# Altium schematic symbol library FPGA.SchLib: 3 symbols
Pins are listed as number, name and electrical type; pins without a type are passive.

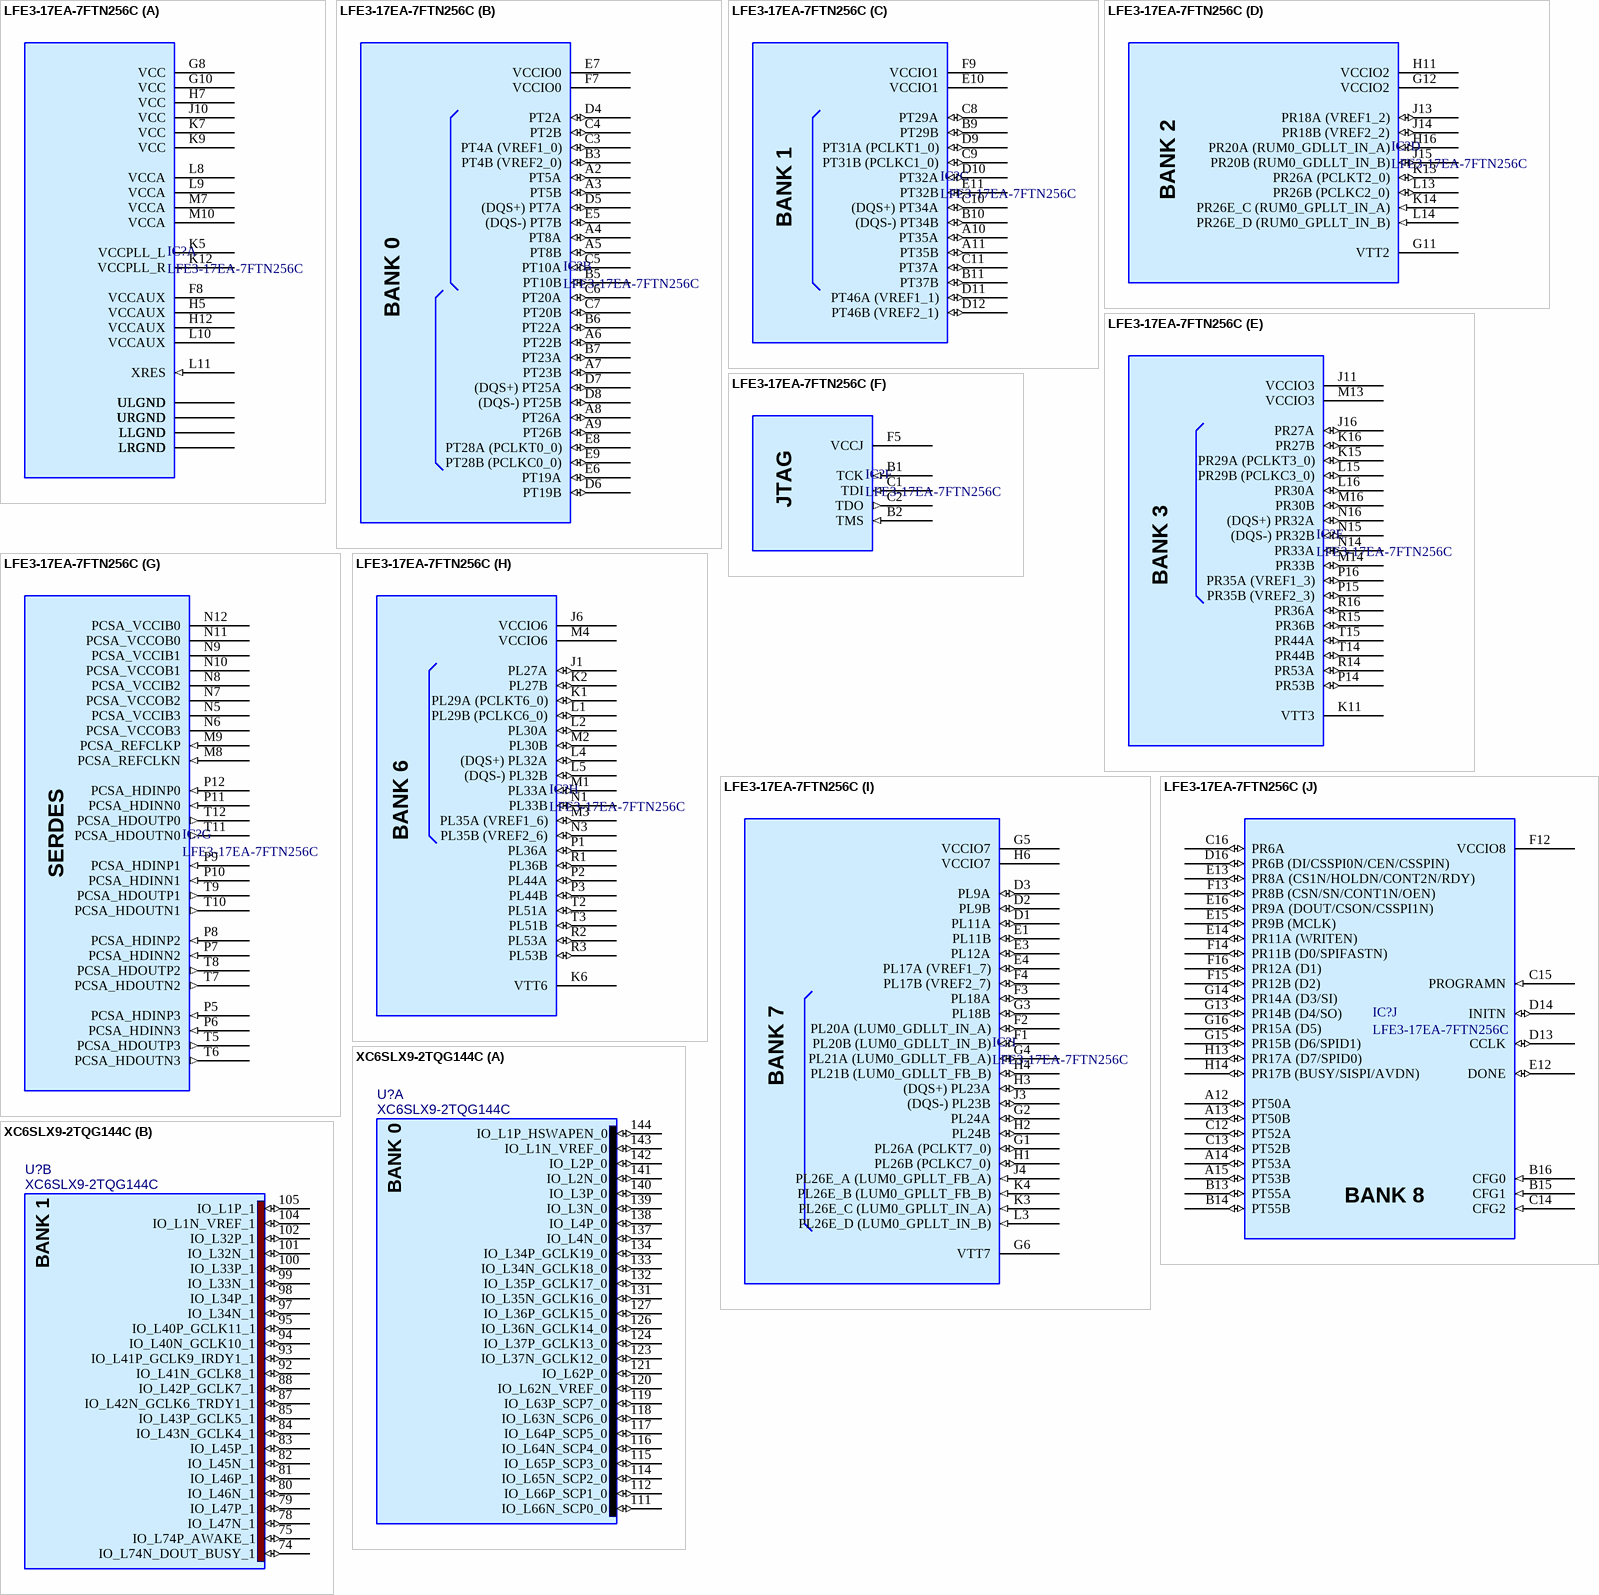
[diagram p0: symbols LFE3-17EA-7FTN256C to XC6SLX9-2TQG144C]

## LFE3-17EA-7FTN256C
designator IC?
Lattice ECP3-17; IOs: 133; LUTs: 17K; SERDES: 4; Speed Grade: -8; Voltage: 1.2V; ComponentLink1Description: Datasheet; ComponentLink1URL: http://www.latticesemi.com/documents/ds1021ea.pdf; Created: 2013-10-02; Last Updated: 2013-10-02; Manufacturer 1: Lattice; Manufacturer Part Number 1: LFE3-17EA-7FTN256C; Package: ftBGA256
footprint FTBGA-256 (ECP3 Variant)
part A pins: A1 URGND (power), A16 ULGND (power), B4 URGND (power), B8 URGND (power), B12 ULGND (power), D15 ULGND (power), E2 URGND (power), F6 URGND (power), F8 VCCAUX (power), F10 ULGND (power), F11 ULGND (power), G7 URGND (power), G8 VCC (power), G9 ULGND (power), G10 VCC (power), H5 VCCAUX (power), H7 VCC (power), H8 URGND (power), H9 ULGND (power), H10 ULGND (power), H12 VCCAUX (power), H15 ULGND (power), J2 LRGND (power), J5 LRGND (power), J7 LRGND (power), J8 LRGND (power), J9 LLGND (power), J10 VCC (power), J12 LLGND (power), K5 VCCPLL_L (power), K7 VCC (power), K8 LRGND (power), K9 VCC (power), K10 LLGND (power), K12 VCCPLL_R (power), L6 LRGND (power), L7 LRGND (power), L8 VCCA (power), L9 VCCA (power), L10 VCCAUX (power), L11 XRES (in), L12 LLGND (power), M5 LRGND (power), M6 LRGND (power), M7 VCCA (power), M10 VCCA (power), M11 LLGND (power), M12 LLGND (power), M15 LLGND (power), N2 LRGND (power), N4 LRGND (power), N13 LLGND (power), P4 LRGND (power), P13 LLGND (power), R4 LRGND (power), R5 LRGND (power), R6 LRGND (power), R7 LRGND (power), R8 LRGND (power), R9 LLGND (power), R10 LLGND (power), R11 LLGND (power), R12 LLGND (power), R13 LLGND (power), T1 LRGND (power), T4 LRGND (power), T13 LLGND (power), T16 LLGND (power)
part B pins: A2 PT5A (io) "0", A3 PT5B (io) "0", A4 PT8A (io) "0", A5 PT8B (io) "0", A6 PT22B (io) "0", A7 PT23B (io) "0", A8 PT26A (io) "0", A9 PT26B (io) "0", B3 PT4B (VREF2_0) (io) "0", B5 PT10B (io) "0", B6 PT22A (io) "0", B7 PT23A (io) "0", C3 PT4A (VREF1_0) (io) "0", C4 PT2B (io) "0", C5 PT10A (io) "0", C6 PT20A (io) "0", C7 PT20B (io) "0", D4 PT2A (io) "0", D5 (DQS+) PT7A (io) "0", D6 PT19B (io) "0", D7 (DQS+) PT25A (io) "0", D8 (DQS-) PT25B (io) "0", E5 (DQS-) PT7B (io) "0", E6 PT19A (io) "0", E7 VCCIO0 "0", E8 PT28A (PCLKT0_0) (io) "0", E9 PT28B (PCLKC0_0) (io) "0", F7 VCCIO0 "0"
part C pins: A10 PT35A (io) "1", A11 PT35B (io) "1", B9 PT29B (io) "1", B10 (DQS-) PT34B (io) "1", B11 PT37B (io) "1", C8 PT29A (io) "1", C9 PT31B (PCLKC1_0) (io) "1", C10 (DQS+) PT34A (io) "1", C11 PT37A (io) "1", D9 PT31A (PCLKT1_0) (io) "1", D10 PT32A (io) "1", D11 PT46A (VREF1_1) (io) "1", D12 PT46B (VREF2_1) (io) "1", E10 VCCIO1 (power) "1", E11 PT32B (io) "1", F9 VCCIO1 (power) "1"
part D pins: G11 VTT2, G12 VCCIO2 (power) "2", H11 VCCIO2 "2", H16 PR20A (RUM0_GDLLT_IN_A) (io) "2", J13 PR18A (VREF1_2) (io) "2", J14 PR18B (VREF2_2) (io) "2", J15 PR20B (RUM0_GDLLT_IN_B) (io) "2", K13 PR26A (PCLKT2_0) (io) "2", K14 PR26E_C (RUM0_GPLLT_IN_A) (in) "2", L13 PR26B (PCLKC2_0) (io) "2", L14 PR26E_D (RUM0_GPLLT_IN_B) (in) "2"
part E pins: J11 VCCIO3 "3", J16 PR27A (io) "3", K11 VTT3, K15 PR29A (PCLKT3_0) (io) "3", K16 PR27B (io) "3", L15 PR29B (PCLKC3_0) (io) "3", L16 PR30A (io) "3", M13 VCCIO3 (power) "3", M14 PR33B (io) "3", M16 PR30B (io) "3", N14 PR33A (io) "3", N15 (DQS-) PR32B (io) "3", N16 (DQS+) PR32A (io) "3", P14 PR53B (io) "3", P15 PR35B (VREF2_3) (io) "3", P16 PR35A (VREF1_3) (io) "3", R14 PR53A (io) "3", R15 PR36B (io) "3", R16 PR36A (io) "3", T14 PR44B (io) "3", T15 PR44A (io) "3"
part F pins: B1 TCK (in) "4", B2 TMS (in) "4", C1 TDI (in), C2 TDO (out) "4", F5 VCCJ (power) "4"
part G pins: M8 PCSA_REFCLKN (in), M9 PCSA_REFCLKP (in), N5 PCSA_VCCIB3 (power), N6 PCSA_VCCOB3 (power), N7 PCSA_VCCOB2 (power), N8 PCSA_VCCIB2 (power), N9 PCSA_VCCIB1 (power), N10 PCSA_VCCOB1 (power), N11 PCSA_VCCOB0 (power), N12 PCSA_VCCIB0 (power), P5 PCSA_HDINP3 (in), P6 PCSA_HDINN3 (in), P7 PCSA_HDINN2 (in), P8 PCSA_HDINP2 (in), P9 PCSA_HDINP1 (in), P10 PCSA_HDINN1 (in), P11 PCSA_HDINN0 (in), P12 PCSA_HDINP0 (in), T5 PCSA_HDOUTP3 (out), T6 PCSA_HDOUTN3 (out), T7 PCSA_HDOUTN2 (out), T8 PCSA_HDOUTP2 (out), T9 PCSA_HDOUTP1 (out), T10 PCSA_HDOUTN1 (out), T11 PCSA_HDOUTN0 (out), T12 PCSA_HDOUTP0 (out)
part H pins: J1 PL27A (io) "6", J6 VCCIO6 (power) "6", K1 PL29A (PCLKT6_0) (io) "6", K2 PL27B (io) "6", K6 VTT6, L1 PL29B (PCLKC6_0) (io) "6", L2 PL30A (io) "6", L4 (DQS+) PL32A (io) "6", L5 (DQS-) PL32B (io) "6", M1 PL33A (io) "6", M2 PL30B (io) "6", M3 PL35A (VREF1_6) (io) "6", M4 VCCIO6 (power) "6", N1 PL33B (io) "6", N3 PL35B (VREF2_6) (io) "6", P1 PL36A (io) "6", P2 PL44A (io) "6", P3 PL44B (io) "6", R1 PL36B (io) "6", R2 PL53A (io) "6", R3 PL53B (io) "6", T2 PL51A (io) "6", T3 PL51B (io) "6"
part I pins: D1 PL11A (io) "7", D2 PL9B (io) "7", D3 PL9A (io) "7", E1 PL11B (io) "7", E3 PL12A (io) "7", E4 PL17A (VREF1_7) (io) "7", F1 PL20B (LUM0_GDLLT_IN_B) (io) "7", F2 PL20A (LUM0_GDLLT_IN_A) (io) "7", F3 PL18A (io) "7", F4 PL17B (VREF2_7) (io) "7", G1 PL26A (PCLKT7_0) (io) "7", G2 PL24A (io) "7", G3 PL18B (io) "7", G4 PL21A (LUM0_GDLLT_FB_A) (io) "7", G5 VCCIO7 (power) "7", G6 VTT7, H1 PL26B (PCLKC7_0) (io) "7", H2 PL24B (io) "7", H3 (DQS+) PL23A (io) "7", H4 PL21B (LUM0_GDLLT_FB_B) (io) "7", H6 VCCIO7 "7", J3 (DQS-) PL23B (io) "7", J4 PL26E_A (LUM0_GPLLT_FB_A) (in) "7", K3 PL26E_C (LUM0_GPLLT_IN_A) (in) "7", K4 PL26E_B (LUM0_GPLLT_FB_B) (in) "7", L3 PL26E_D (LUM0_GPLLT_IN_B) (in) "7"
part J pins: A12 PT50A (io) "8", A13 PT50B (io) "8", A14 PT53A (io) "8", A15 PT53B (io) "8", B13 PT55A (io) "8", B14 PT55B (io) "8", B15 CFG1 (in) "8", B16 CFG0 (in) "8", C12 PT52A (io) "8", C13 PT52B (io) "8", C14 CFG2 (in) "8", C15 PROGRAMN (in) "8", C16 PR6A (io) "8", D13 CCLK (io) "8", D14 INITN (io) "8", D16 PR6B (DI/CSSPI0N/CEN/CSSPIN) (io) "8", E12 DONE (io) "8", E13 PR8A (CS1N/HOLDN/CONT2N/RDY) (io) "8", E14 PR11A (WRITEN) (io) "8", E15 PR9B (MCLK) (io) "8", E16 PR9A (DOUT/CSON/CSSPI1N) (io) "8", F12 VCCIO8 (power) "8", F13 PR8B (CSN/SN/CONT1N/OEN) (io) "8", F14 PR11B (D0/SPIFASTN) (io) "8", F15 PR12B (D2) (io) "8", F16 PR12A (D1) (io) "8", G13 PR14B (D4/SO) (io) "8", G14 PR14A (D3/SI) (io) "8", G15 PR15B (D6/SPID1) (io) "8", G16 PR15A (D5) (io) "8", H13 PR17A (D7/SPID0) (io) "8", H14 PR17B (BUSY/SISPI/AVDN) (io) "8"
part B text: BANK 0
part C text: BANK 1
part D text: BANK 2
part E text: BANK 3
part F text: JTAG
part G text: SERDES
part H text: BANK 6
part I text: BANK 7
part J text: BANK 8

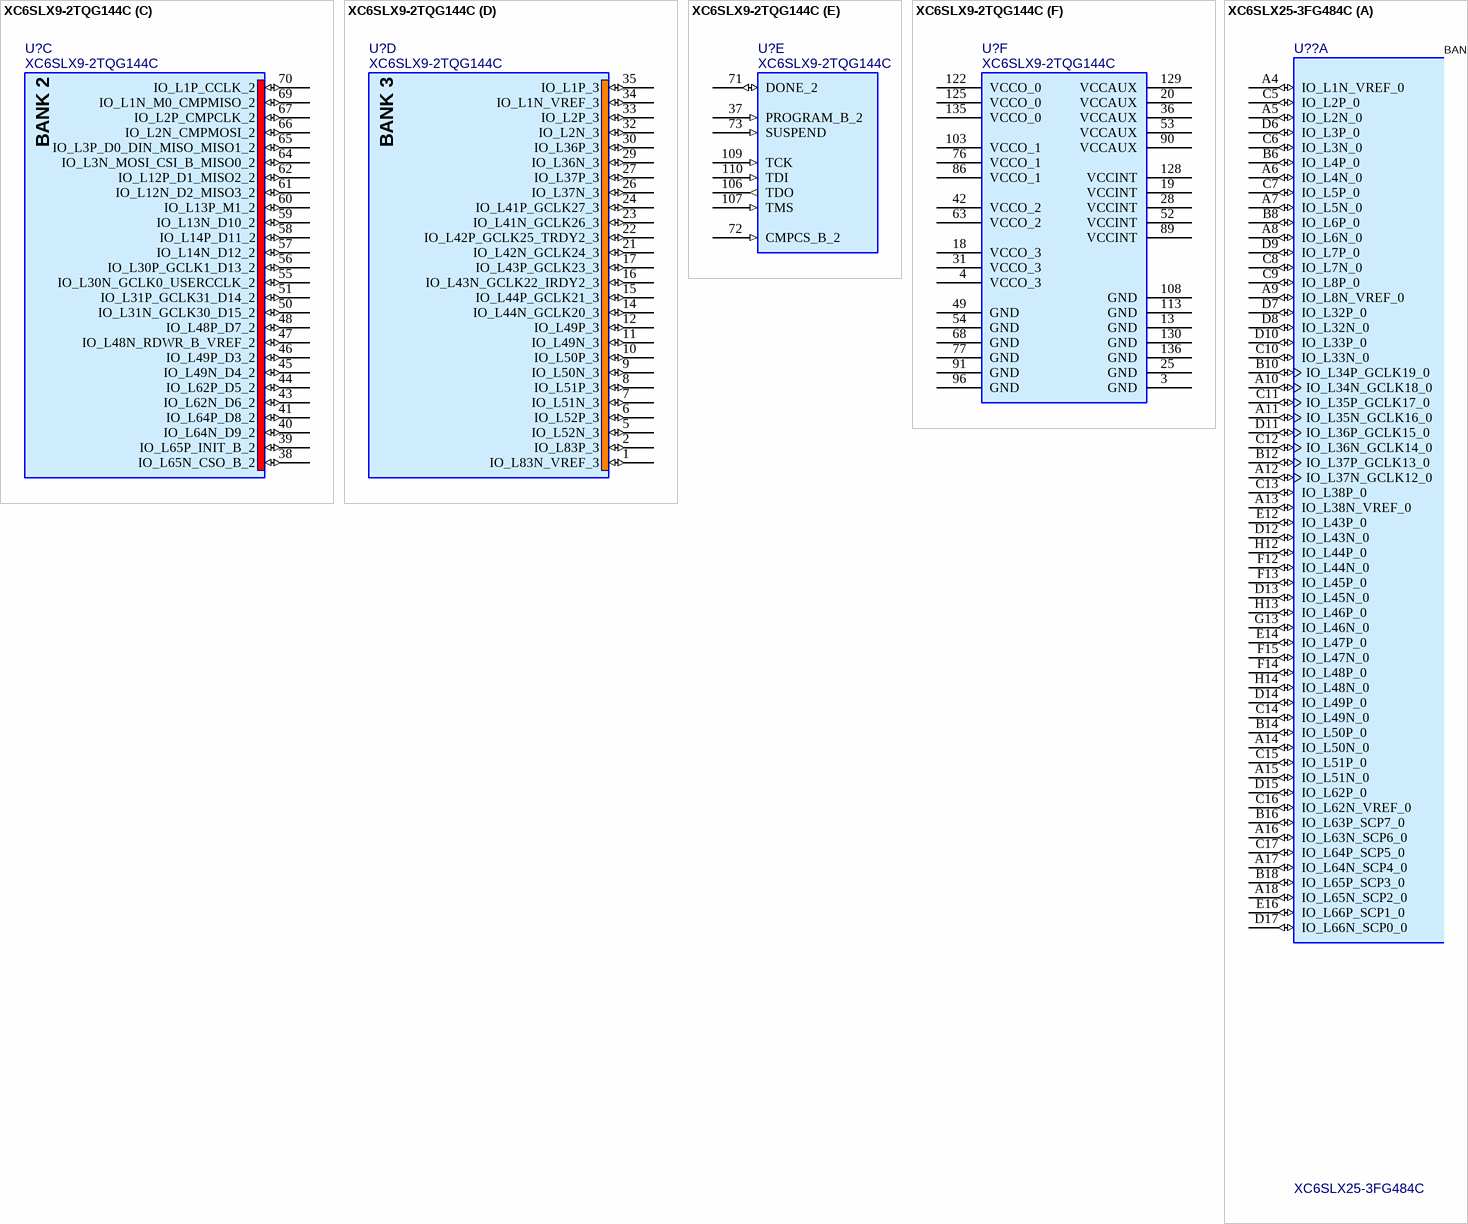
[diagram p1: symbols XC6SLX9-2TQG144C to XC6SLX25-3FG484C]

## XC6SLX9-2TQG144C
designator U?
Spartan-6 LX 1.2V FPGA, 102 User I/Os, 144-Pin TQFP (0.5mm Pitch), Speed Grade 2, Commercial Grade, Pb-Free; Manufacturer 1: Xilinx; PackageReference: TQG144; PackageDescription: 144-Pin Thin Quad Flat Pack (TQG144) - Pb-Free; Code_JEDEC: MS-026-BFB; ComponentLink1Description: Spartan-6 Datasheet; ComponentLink1URL: http://www.xilinx.com/support/documentation/data_sheets/ds160.pdf; ComponentLink2Description: Pinout Specification; ComponentLink2URL: http://www.xilinx.com/support/documentation/user_guides/ug385.pdf; ComponentLink3Description: TQG144 Package Drawing; ComponentLink3URL: http://www.xilinx.com/support/documentation/package_specs/tq144.pdf; ComponentLink4Description: Spartan-6 Documents; ComponentLink4URL: http://www.xilinx.com/support/documentation/spartan-6.htm; ComponentLink5Description: Xilinx.com Home; ComponentLink5URL: http://www.xilinx.com; Created: 2014-05-20; Last Updated: 2014-05-20
footprint TQG144 (Thin QFP, 144-Leads, Body 20x20mm, Pitch 0.5mm, IPC Medium Density)
part A pins: 111 IO_L66N_SCP0_0 (io), 112 IO_L66P_SCP1_0 (io), 114 IO_L65N_SCP2_0 (io), 115 IO_L65P_SCP3_0 (io), 116 IO_L64N_SCP4_0 (io), 117 IO_L64P_SCP5_0 (io), 118 IO_L63N_SCP6_0 (io), 119 IO_L63P_SCP7_0 (io), 120 IO_L62N_VREF_0 (io), 121 IO_L62P_0 (io), 123 IO_L37N_GCLK12_0 (io), 124 IO_L37P_GCLK13_0 (io), 126 IO_L36N_GCLK14_0 (io), 127 IO_L36P_GCLK15_0 (io), 131 IO_L35N_GCLK16_0 (io), 132 IO_L35P_GCLK17_0 (io), 133 IO_L34N_GCLK18_0 (io), 134 IO_L34P_GCLK19_0 (io), 137 IO_L4N_0 (io), 138 IO_L4P_0 (io), 139 IO_L3N_0 (io), 140 IO_L3P_0 (io), 141 IO_L2N_0 (io), 142 IO_L2P_0 (io), 143 IO_L1N_VREF_0 (io), 144 IO_L1P_HSWAPEN_0 (io)
part B pins: 74 IO_L74N_DOUT_BUSY_1 (io), 75 IO_L74P_AWAKE_1 (io), 78 IO_L47N_1 (io), 79 IO_L47P_1 (io), 80 IO_L46N_1 (io), 81 IO_L46P_1 (io), 82 IO_L45N_1 (io), 83 IO_L45P_1 (io), 84 IO_L43N_GCLK4_1 (io), 85 IO_L43P_GCLK5_1 (io), 87 IO_L42N_GCLK6_TRDY1_1 (io), 88 IO_L42P_GCLK7_1 (io), 92 IO_L41N_GCLK8_1 (io), 93 IO_L41P_GCLK9_IRDY1_1 (io), 94 IO_L40N_GCLK10_1 (io), 95 IO_L40P_GCLK11_1 (io), 97 IO_L34N_1 (io), 98 IO_L34P_1 (io), 99 IO_L33N_1 (io), 100 IO_L33P_1 (io), 101 IO_L32N_1 (io), 102 IO_L32P_1 (io), 104 IO_L1N_VREF_1 (io), 105 IO_L1P_1 (io)
part C pins: 38 IO_L65N_CSO_B_2 (io), 39 IO_L65P_INIT_B_2 (io), 40 IO_L64N_D9_2 (io), 41 IO_L64P_D8_2 (io), 43 IO_L62N_D6_2 (io), 44 IO_L62P_D5_2 (io), 45 IO_L49N_D4_2 (io), 46 IO_L49P_D3_2 (io), 47 IO_L48N_RDWR_B_VREF_2 (io), 48 IO_L48P_D7_2 (io), 50 IO_L31N_GCLK30_D15_2 (io), 51 IO_L31P_GCLK31_D14_2 (io), 55 IO_L30N_GCLK0_USERCCLK_2 (io), 56 IO_L30P_GCLK1_D13_2 (io), 57 IO_L14N_D12_2 (io), 58 IO_L14P_D11_2 (io), 59 IO_L13N_D10_2 (io), 60 IO_L13P_M1_2 (io), 61 IO_L12N_D2_MISO3_2 (io), 62 IO_L12P_D1_MISO2_2 (io), 64 IO_L3N_MOSI_CSI_B_MISO0_2 (io), 65 IO_L3P_D0_DIN_MISO_MISO1_2 (io), 66 IO_L2N_CMPMOSI_2 (io), 67 IO_L2P_CMPCLK_2 (io), 69 IO_L1N_M0_CMPMISO_2 (io), 70 IO_L1P_CCLK_2 (io)
part D pins: 1 IO_L83N_VREF_3 (io), 2 IO_L83P_3 (io), 5 IO_L52N_3 (io), 6 IO_L52P_3 (io), 7 IO_L51N_3 (io), 8 IO_L51P_3 (io), 9 IO_L50N_3 (io), 10 IO_L50P_3 (io), 11 IO_L49N_3 (io), 12 IO_L49P_3 (io), 14 IO_L44N_GCLK20_3 (io), 15 IO_L44P_GCLK21_3 (io), 16 IO_L43N_GCLK22_IRDY2_3 (io), 17 IO_L43P_GCLK23_3 (io), 21 IO_L42N_GCLK24_3 (io), 22 IO_L42P_GCLK25_TRDY2_3 (io), 23 IO_L41N_GCLK26_3 (io), 24 IO_L41P_GCLK27_3 (io), 26 IO_L37N_3 (io), 27 IO_L37P_3 (io), 29 IO_L36N_3 (io), 30 IO_L36P_3 (io), 32 IO_L2N_3 (io), 33 IO_L2P_3 (io), 34 IO_L1N_VREF_3 (io), 35 IO_L1P_3 (io)
part E pins: 37 PROGRAM_B_2 (in), 71 DONE_2 (io), 72 CMPCS_B_2 (in), 73 SUSPEND (in), 106 TDO (out), 107 TMS (in), 109 TCK (in), 110 TDI (in)
part F pins: 3 GND (power), 4 VCCO_3 (power), 13 GND (power), 18 VCCO_3 (power), 19 VCCINT (power), 20 VCCAUX (power), 25 GND (power), 28 VCCINT (power), 31 VCCO_3 (power), 36 VCCAUX (power), 42 VCCO_2 (power), 49 GND (power), 52 VCCINT (power), 53 VCCAUX (power), 54 GND (power), 63 VCCO_2 (power), 68 GND (power), 76 VCCO_1 (power), 77 GND (power), 86 VCCO_1 (power), 89 VCCINT (power), 90 VCCAUX (power), 91 GND (power), 96 GND (power), 103 VCCO_1 (power), 108 GND (power), 113 GND (power), 122 VCCO_0 (power), 125 VCCO_0 (power), 128 VCCINT (power), 129 VCCAUX (power), 130 GND (power), 135 VCCO_0 (power), 136 GND (power)
part A text: BANK 0
part B text: BANK 1
part C text: BANK 2
part D text: BANK 3

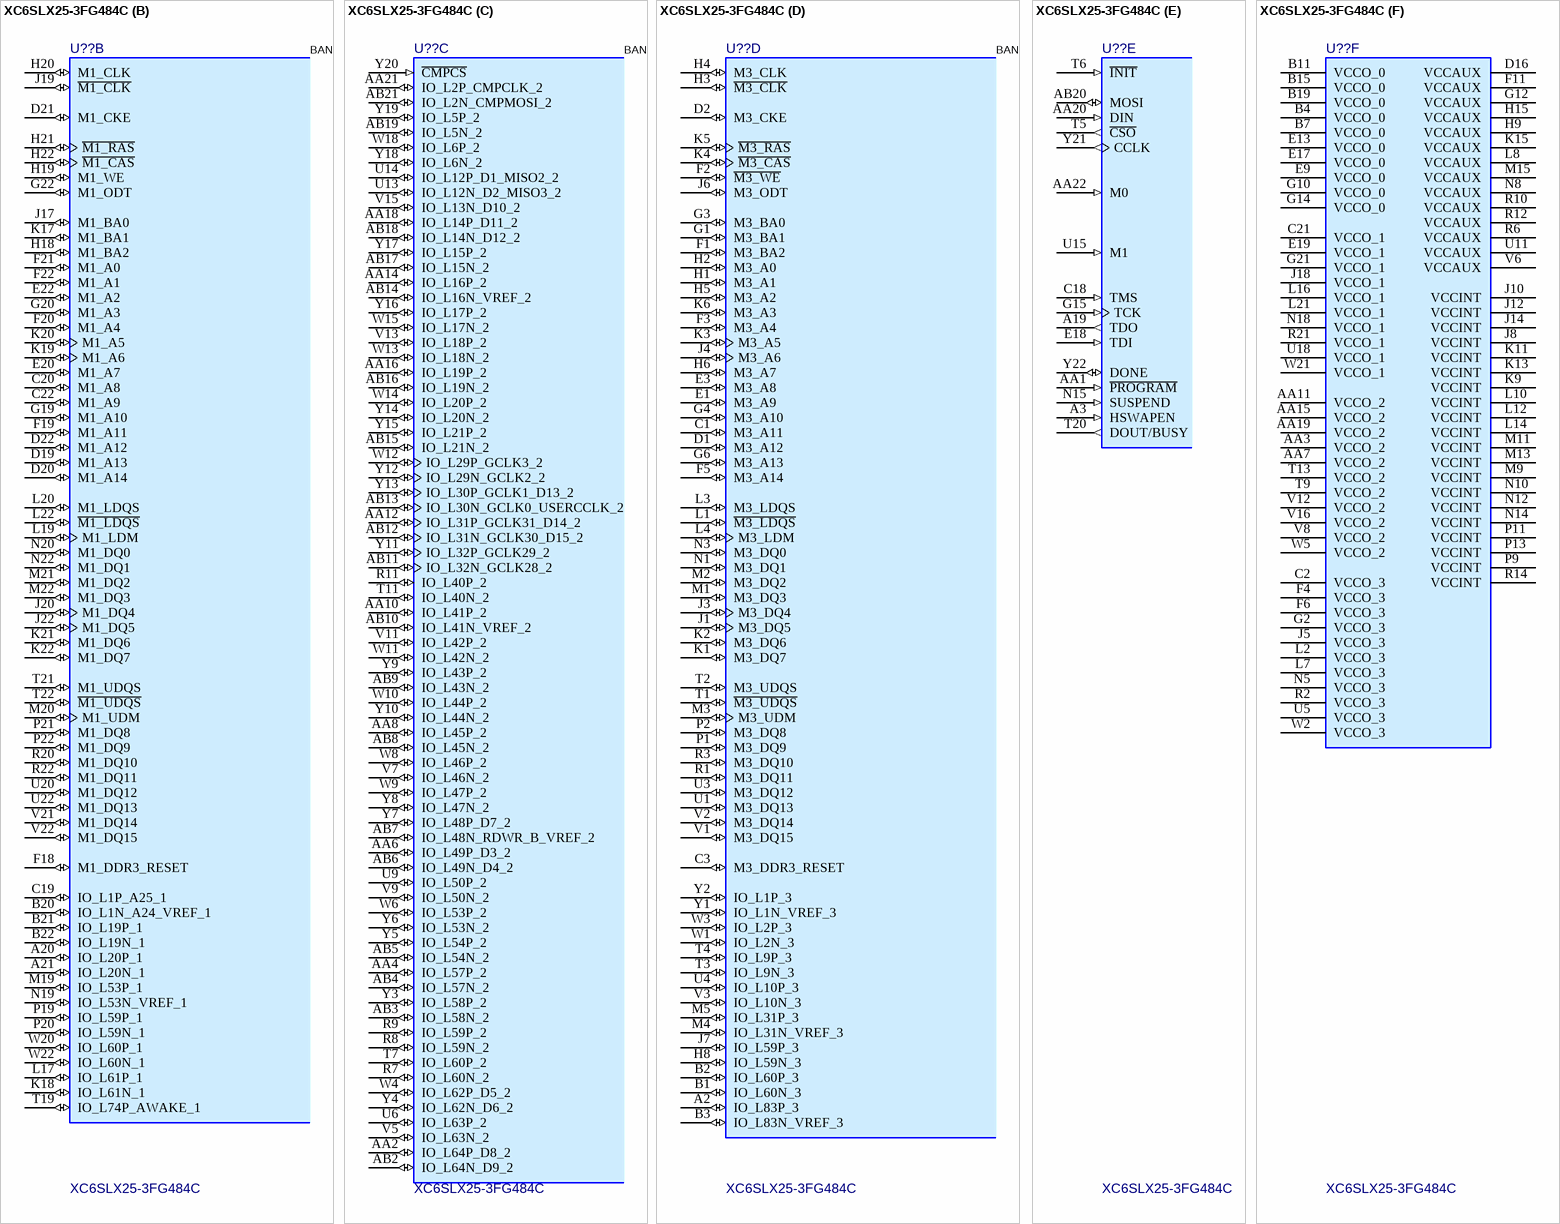
[diagram p2: symbol XC6SLX25-3FG484C]

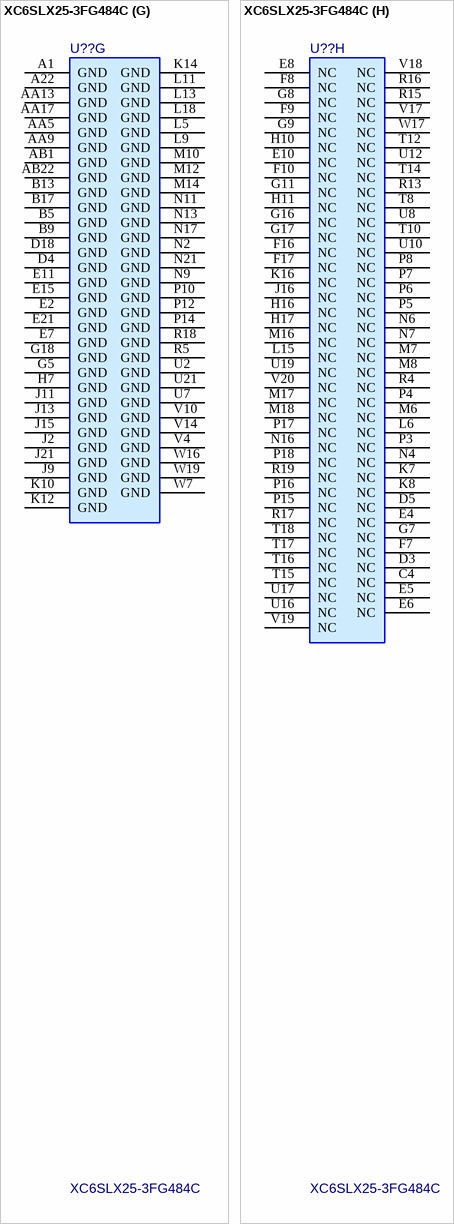
[diagram p3: symbol XC6SLX25-3FG484C]

## XC6SLX25-3FG484C
designator U??
Spartan-6 LX 1.2V FPGA, 266 User I/Os, 484-Ball Fine-Pitch BGA (1.0mm Pitch), Speed Grade 3, Commercial Grade; Published: 17-Nov-2009; DatasheetVersion: ver1.6, Nov-2010; PackageVersion: ver1.1, Dec-2008; PackageReference: FG484; Publisher: Altium Limited; PackageDescription: 484-Ball Fine Pitch Ball Grid Array 1.00 mm Pitch (FG484); Code_JEDEC: MS-034-AAJ-1; Code_IPC: BGA100P22X22-484; ComponentLink1Description: Manufacturer Link; ComponentLink1URL: http://www.xilinx.com; ComponentLink2Description: Spartan-6 Datasheet; ComponentLink2URL: http://www.xilinx.com/support/documentation/data_sheets/ds160.pdf; ComponentLink3Description: Spartan-6 Documents; ComponentLink3URL: http://www.xilinx.com/support/documentation/spartan-6.htm; ComponentLink4Description: Xilinx.com Home; ComponentLink4URL: http://www.xilinx.com
footprint FGG484 (484-Ball Fine Pitch Ball Grid Array 1.00 mm Pitch (FGG484) - Pb-Free)
signal-integrity model XC6SLX25_FG484 (Spartan-6)
part A pins: A4 IO_L1N_VREF_0 (io), A5 IO_L2N_0 (io), A6 IO_L4N_0 (io), A7 IO_L5N_0 (io), A8 IO_L6N_0 (io), A9 IO_L8N_VREF_0 (io), A10 IO_L34N_GCLK18_0 (io), A11 IO_L35N_GCLK16_0 (io), A12 IO_L37N_GCLK12_0 (io), A13 IO_L38N_VREF_0 (io), A14 IO_L50N_0 (io), A15 IO_L51N_0 (io), A16 IO_L63N_SCP6_0 (io), A17 IO_L64N_SCP4_0 (io), A18 IO_L65N_SCP2_0 (io), B6 IO_L4P_0 (io), B8 IO_L6P_0 (io), B10 IO_L34P_GCLK19_0 (io), B12 IO_L37P_GCLK13_0 (io), B14 IO_L50P_0 (io), B16 IO_L63P_SCP7_0 (io), B18 IO_L65P_SCP3_0 (io), C5 IO_L2P_0 (io), C6 IO_L3N_0 (io), C7 IO_L5P_0 (io), C8 IO_L7N_0 (io), C9 IO_L8P_0 (io), C10 IO_L33N_0 (io), C11 IO_L35P_GCLK17_0 (io), C12 IO_L36N_GCLK14_0 (io), C13 IO_L38P_0 (io), C14 IO_L49N_0 (io), C15 IO_L51P_0 (io), C16 IO_L62N_VREF_0 (io), C17 IO_L64P_SCP5_0 (io), D6 IO_L3P_0 (io), D7 IO_L32P_0 (io), D8 IO_L32N_0 (io), D9 IO_L7P_0 (io), D10 IO_L33P_0 (io), D11 IO_L36P_GCLK15_0 (io), D12 IO_L43N_0 (io), D13 IO_L45N_0 (io), D14 IO_L49P_0 (io), D15 IO_L62P_0 (io), D17 IO_L66N_SCP0_0 (io), E12 IO_L43P_0 (io), E14 IO_L47P_0 (io), E16 IO_L66P_SCP1_0 (io), F12 IO_L44N_0 (io), F13 IO_L45P_0 (io), F14 IO_L48P_0 (io), F15 IO_L47N_0 (io), G13 IO_L46N_0 (io), H12 IO_L44P_0 (io), H13 IO_L46P_0 (io), H14 IO_L48N_0 (io)
part B pins: A20 IO_L20P_1 (io), A21 IO_L20N_1 (io), B20 IO_L1N_A24_VREF_1 (io), B21 IO_L19P_1 (io), B22 IO_L19N_1 (io), C19 IO_L1P_A25_1 (io), C20 M1_A8 (io), C22 M1_A9 (io), D19 M1_A13 (io), D20 M1_A14 (io), D21 M1_CKE (io), D22 M1_A12 (io), E20 M1_A7 (io), E22 M1_A2 (io), F18 M1_DDR3_RESET (io), F19 M1_A11 (io), F20 M1_A4 (io), F21 M1_A0 (io), F22 M1_A1 (io), G19 M1_A10 (io), G20 M1_A3 (io), G22 M1_ODT (io), H18 M1_BA2 (io), H19 M1_WE (io), H20 M1_CLK (io), H21 ~{M1_RAS} (io), H22 ~{M1_CAS} (io), J17 M1_BA0 (io), J19 ~{M1_CLK} (io), J20 M1_DQ4 (io), J22 M1_DQ5 (io), K17 M1_BA1 (io), K18 IO_L61N_1 (io), K19 M1_A6 (io), K20 M1_A5 (io), K21 M1_DQ6 (io), K22 M1_DQ7 (io), L17 IO_L61P_1 (io), L19 M1_LDM (io), L20 M1_LDQS (io), L22 ~{M1_LDQS} (io), M19 IO_L53P_1 (io), M20 M1_UDM (io), M21 M1_DQ2 (io), M22 M1_DQ3 (io), N19 IO_L53N_VREF_1 (io), N20 M1_DQ0 (io), N22 M1_DQ1 (io), P19 IO_L59P_1 (io), P20 IO_L59N_1 (io), P21 M1_DQ8 (io), P22 M1_DQ9 (io), R20 M1_DQ10 (io), R22 M1_DQ11 (io), T19 IO_L74P_AWAKE_1 (io), T21 M1_UDQS (io), T22 ~{M1_UDQS} (io), U20 M1_DQ12 (io), U22 M1_DQ13 (io), V21 M1_DQ14 (io), V22 M1_DQ15 (io), W20 IO_L60P_1 (io), W22 IO_L60N_1 (io)
part C pins: AA2 IO_L64P_D8_2 (io), AA4 IO_L57P_2 (io), AA6 IO_L49P_D3_2 (io), AA8 IO_L45P_2 (io), AA10 IO_L41P_2 (io), AA12 IO_L31P_GCLK31_D14_2 (io), AA14 IO_L16P_2 (io), AA16 IO_L19P_2 (io), AA18 IO_L14P_D11_2 (io), AA21 IO_L2P_CMPCLK_2 (io), AB2 IO_L64N_D9_2 (io), AB3 IO_L58N_2 (io), AB4 IO_L57N_2 (io), AB5 IO_L54N_2 (io), AB6 IO_L49N_D4_2 (io), AB7 IO_L48N_RDWR_B_VREF_2 (io), AB8 IO_L45N_2 (io), AB9 IO_L43N_2 (io), AB10 IO_L41N_VREF_2 (io), AB11 IO_L32N_GCLK28_2 (io), AB12 IO_L31N_GCLK30_D15_2 (io), AB13 IO_L30N_GCLK0_USERCCLK_2 (io), AB14 IO_L16N_VREF_2 (io), AB15 IO_L21N_2 (io), AB16 IO_L19N_2 (io), AB17 IO_L15N_2 (io), AB18 IO_L14N_D12_2 (io), AB19 IO_L5N_2 (io), AB21 IO_L2N_CMPMOSI_2 (io), R7 IO_L60N_2 (io), R8 IO_L59N_2 (io), R9 IO_L59P_2 (io), R11 IO_L40P_2 (io), T7 IO_L60P_2 (io), T11 IO_L40N_2 (io), U6 IO_L63P_2 (io), U9 IO_L50P_2 (io), U13 IO_L12N_D2_MISO3_2 (io), U14 IO_L12P_D1_MISO2_2 (io), V5 IO_L63N_2 (io), V7 IO_L46N_2 (io), V9 IO_L50N_2 (io), V11 IO_L42P_2 (io), V13 IO_L18P_2 (io), V15 IO_L13N_D10_2 (io), W4 IO_L62P_D5_2 (io), W6 IO_L53P_2 (io), W8 IO_L46P_2 (io), W9 IO_L47P_2 (io), W10 IO_L44P_2 (io), W11 IO_L42N_2 (io), W12 IO_L29P_GCLK3_2 (io), W13 IO_L18N_2 (io), W14 IO_L20P_2 (io), W15 IO_L17N_2 (io), W18 IO_L6P_2 (io), Y3 IO_L58P_2 (io), Y4 IO_L62N_D6_2 (io), Y5 IO_L54P_2 (io), Y6 IO_L53N_2 (io), Y7 IO_L48P_D7_2 (io), Y8 IO_L47N_2 (io), Y9 IO_L43P_2 (io), Y10 IO_L44N_2 (io), Y11 IO_L32P_GCLK29_2 (io), Y12 IO_L29N_GCLK2_2 (io), Y13 IO_L30P_GCLK1_D13_2 (io), Y14 IO_L20N_2 (io), Y15 IO_L21P_2 (io), Y16 IO_L17P_2 (io), Y17 IO_L15P_2 (io), Y18 IO_L6N_2 (io), Y19 IO_L5P_2 (io), Y20 ~{CMPCS} (in)
part D pins: A2 IO_L83P_3 (io), B1 IO_L60N_3 (io), B2 IO_L60P_3 (io), B3 IO_L83N_VREF_3 (io), C1 M3_A11 (io), C3 M3_DDR3_RESET (io), D1 M3_A12 (io), D2 M3_CKE (io), E1 M3_A9 (io), E3 M3_A8 (io), F1 M3_BA2 (io), F2 ~{M3_WE} (io), F3 M3_A4 (io), F5 M3_A14 (io), G1 M3_BA1 (io), G3 M3_BA0 (io), G4 M3_A10 (io), G6 M3_A13 (io), H1 M3_A1 (io), H2 M3_A0 (io), H3 ~{M3_CLK} (io), H4 M3_CLK (io), H5 M3_A2 (io), H6 M3_A7 (io), H8 IO_L59N_3 (io), J1 M3_DQ5 (io), J3 M3_DQ4 (io), J4 M3_A6 (io), J6 M3_ODT (io), J7 IO_L59P_3 (io), K1 M3_DQ7 (io), K2 M3_DQ6 (io), K3 M3_A5 (io), K4 ~{M3_CAS} (io), K5 ~{M3_RAS} (io), K6 M3_A3 (io), L1 ~{M3_LDQS} (io), L3 M3_LDQS (io), L4 M3_LDM (io), M1 M3_DQ3 (io), M2 M3_DQ2 (io), M3 M3_UDM (io), M4 IO_L31N_VREF_3 (io), M5 IO_L31P_3 (io), N1 M3_DQ1 (io), N3 M3_DQ0 (io), P1 M3_DQ9 (io), P2 M3_DQ8 (io), R1 M3_DQ11 (io), R3 M3_DQ10 (io), T1 ~{M3_UDQS} (io), T2 M3_UDQS (io), T3 IO_L9N_3 (io), T4 IO_L9P_3 (io), U1 M3_DQ13 (io), U3 M3_DQ12 (io), U4 IO_L10P_3 (io), V1 M3_DQ15 (io), V2 M3_DQ14 (io), V3 IO_L10N_3 (io), W1 IO_L2N_3 (io), W3 IO_L2P_3 (io), Y1 IO_L1N_VREF_3 (io), Y2 IO_L1P_3 (io)
part E pins: A3 HSWAPEN (in), A19 TDO (out), AA1 ~{PROGRAM} (in), AA20 DIN (in), AA22 M0 (in), AB20 MOSI (io), C18 TMS (in), E18 TDI (in), G15 TCK (in), N15 SUSPEND (in), T5 ~{CSO} (out), T6 ~{INIT} (in), T20 DOUT/BUSY (out), U15 M1 (in), Y21 CCLK (out), Y22 DONE (io)
part F pins: AA3 VCCO_2 (power), AA7 VCCO_2 (power), AA11 VCCO_2 (power), AA15 VCCO_2 (power), AA19 VCCO_2 (power), B4 VCCO_0 (power), B7 VCCO_0 (power), B11 VCCO_0 (power), B15 VCCO_0 (power), B19 VCCO_0 (power), C2 VCCO_3 (power), C21 VCCO_1 (power), D16 VCCAUX (power), E9 VCCO_0 (power), E13 VCCO_0 (power), E17 VCCO_0 (power), E19 VCCO_1 (power), F4 VCCO_3 (power), F6 VCCO_3 (power), F11 VCCAUX (power), G2 VCCO_3 (power), G10 VCCO_0 (power), G12 VCCAUX (power), G14 VCCO_0 (power), G21 VCCO_1 (power), H9 VCCAUX (power), H15 VCCAUX (power), J5 VCCO_3 (power), J8 VCCINT (power), J10 VCCINT (power), J12 VCCINT (power), J14 VCCINT (power), J18 VCCO_1 (power), K9 VCCINT (power), K11 VCCINT (power), K13 VCCINT (power), K15 VCCAUX (power), L2 VCCO_3 (power), L7 VCCO_3 (power), L8 VCCAUX (power), L10 VCCINT (power), L12 VCCINT (power), L14 VCCINT (power), L16 VCCO_1 (power), L21 VCCO_1 (power), M9 VCCINT (power), M11 VCCINT (power), M13 VCCINT (power), M15 VCCAUX (power), N5 VCCO_3 (power), N8 VCCAUX (power), N10 VCCINT (power), N12 VCCINT (power), N14 VCCINT (power), N18 VCCO_1 (power), P9 VCCINT (power), P11 VCCINT (power), P13 VCCINT (power), R2 VCCO_3 (power), R6 VCCAUX (power), R10 VCCAUX (power), R12 VCCAUX (power), R14 VCCINT (power), R21 VCCO_1 (power), T9 VCCO_2 (power), T13 VCCO_2 (power), U5 VCCO_3 (power), U11 VCCAUX (power), U18 VCCO_1 (power), V6 VCCAUX (power), V8 VCCO_2 (power), V12 VCCO_2 (power), V16 VCCO_2 (power), W2 VCCO_3 (power), W5 VCCO_2 (power), W21 VCCO_1 (power)
part G pins: A1 GND (power), A22 GND (power), AA5 GND (power), AA9 GND (power), AA13 GND (power), AA17 GND (power), AB1 GND (power), AB22 GND (power), B5 GND (power), B9 GND (power), B13 GND (power), B17 GND (power), D4 GND (power), D18 GND (power), E2 GND (power), E7 GND (power), E11 GND (power), E15 GND (power), E21 GND (power), G5 GND (power), G18 GND (power), H7 GND (power), J2 GND (power), J9 GND (power), J11 GND (power), J13 GND (power), J15 GND (power), J21 GND (power), K10 GND (power), K12 GND (power), K14 GND (power), L5 GND (power), L9 GND (power), L11 GND (power), L13 GND (power), L18 GND (power), M10 GND (power), M12 GND (power), M14 GND (power), N2 GND (power), N9 GND (power), N11 GND (power), N13 GND (power), N17 GND (power), N21 GND (power), P10 GND (power), P12 GND (power), P14 GND (power), R5 GND (power), R18 GND (power), U2 GND (power), U7 GND (power), U21 GND (power), V4 GND (power), V10 GND (power), V14 GND (power), W7 GND (power), W16 GND (power), W19 GND (power)
part H pins: C4 NC, D3 NC, D5 NC, E4 NC, E5 NC, E6 NC, E8 NC, E10 NC, F7 NC, F8 NC, F9 NC, F10 NC, F16 NC, F17 NC, G7 NC, G8 NC, G9 NC, G11 NC, G16 NC, G17 NC, H10 NC, H11 NC, H16 NC, H17 NC, J16 NC, K7 NC, K8 NC, K16 NC, L6 NC, L15 NC, M6 NC, M7 NC, M8 NC, M16 NC, M17 NC, M18 NC, N4 NC, N6 NC, N7 NC, N16 NC, P3 NC, P4 NC, P5 NC, P6 NC, P7 NC, P8 NC, P15 NC, P16 NC, P17 NC, P18 NC, R4 NC, R13 NC, R15 NC, R16 NC, R17 NC, R19 NC, T8 NC, T10 NC, T12 NC, T14 NC, T15 NC, T16 NC, T17 NC, T18 NC, U8 NC, U10 NC, U12 NC, U16 NC, U17 NC, U19 NC, V17 NC, V18 NC, V19 NC, V20 NC, W17 NC
part A text: BANK 0
part B text: BANK 1
part C text: BANK 2
part D text: BANK 3